# Altium footprint library RPUM.PcbLib: 1 footprints
Each footprint in its own frame and in the unit in brackets; x right, y up, seen from the top. Pads: shape width x height; smd on the part's side, far side on the other; paste and mask are expansions set on the pad; w line width, h text height; cw(c..) or ccw(c..) is an arc to the next point about the centre after c.
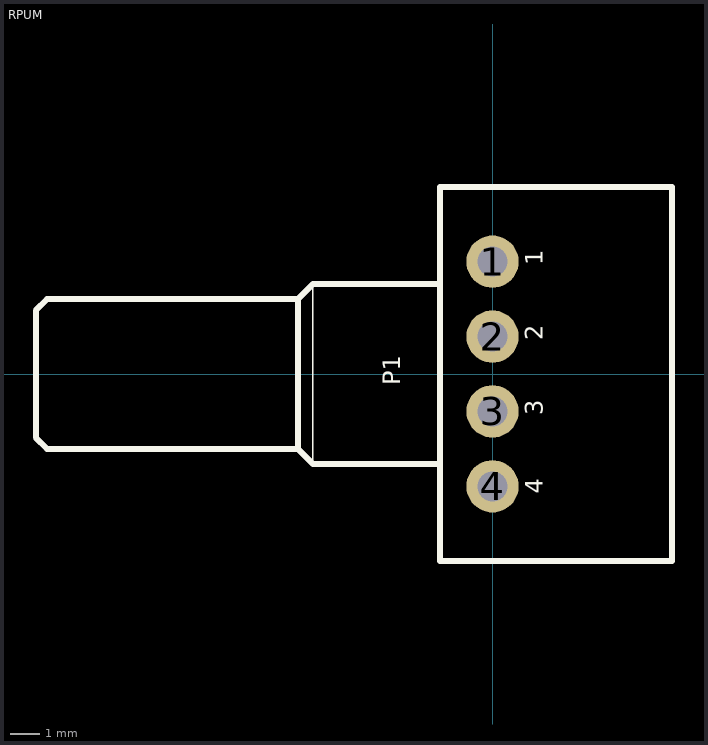
[diagram p0: the footprint, top view; thin cyan lines are the x and y axes]

## RPUM [mil] "Basic pressure sensor"
height 590.55
pads (4):
  round 70 hole 40: 1(0,150) 2(0,50) 3(0,-50) 4(0,-150)
Top Overlay:
  lines w2: -240,-120 -240,120
  lines w8: -70,-120 -240,-120 -260,-100 ; -70,120 -240,120 -260,100 ; -260,-100 -260,100 ; -260,-100 -595,-100 -610,-85 -610,85 -595,100 -260,100 ; -70,-250 -70,250 240,250 240,-250 -70,-250
  text "4" at 75,-160 h40
  text "3" at 75,-55 h40
  text "2" at 75,45 h40
  text "1" at 75,145 h40
  text "P1" at -115,-15 h40
3D body: height 530.72, standoff 334.65, extent -608.27,-98.42 -257.88,98.04
3D body: height 314.96, standoff 0, extent -11.71,138.22 11.82,161.8
3D body: height 314.96, standoff 0, extent -11.71,38.22 11.82,61.8
3D body: height 314.96, standoff 0, extent -11.71,-61.78 11.82,-38.2
3D body: height 314.96, standoff 0, extent -11.71,-161.78 11.82,-138.2
3D body: height 590.55, standoff 275.59, extent -69.98,-249.98 239.98,249.98
3D body: height 558.06, standoff 307.09, extent -259.49,-125 -70.51,126.47